# EAGLE library part TD-107-G-A (library SAMTEC-Txx_By_element14_Batch_1)
CONN RECEPTACLE, 2.54MM, THT VERT, 14WAY
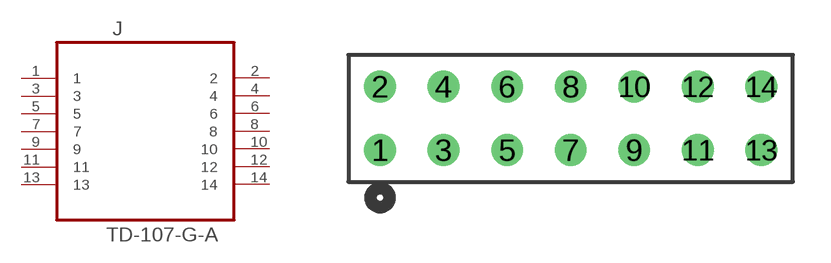
[diagram p8: symbol with the pads of SAMTEC_TD-107-G-A; footprint SAMTEC_TD-107-G-A]

Designator prefix J

## TD-107-G-A (MPN: TD-107-G-A; OC_FARNELL: 2020085; OC_NEWARK: -; PACKAGE: RECEPTACLE, 2.54MM, THT VERT,14WAY; SUPPLIER: SAMTEC)  [SAMTEC_TD-107-G-A]
1  1  pas
2  2  pas
3  3  pas
4  4  pas
5  5  pas
6  6  pas
7  7  pas
8  8  pas
9  9  pas
10  10  pas
11  11  pas
12  12  pas
13  13  pas
14  14  pas

## Footprint SAMTEC_TD-107-G-A (pad centres in mm)
drill 0.762: 1 -15.24,-2.54; 2 -15.24,0; 3 -12.7,-2.54; 4 -12.7,0; 5 -10.16,-2.54; 6 -10.16,0; 7 -7.62,-2.54; 8 -7.62,0; 9 -5.08,-2.54; 10 -5.08,0; 11 -2.54,-2.54; 12 -2.54,0; 13 0,-2.54; 14 0,0